# Altium schematic symbol library VSS-TVS-Diode.SchLib: 1 symbol
Pins are listed as number, name and electrical type; pins without a type are passive.

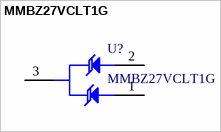
[diagram p0: symbol MMBZ27VCLT1G]

## MMBZ27VCLT1G
designator U?
Zener Diode Protection, Common Cathode, 40 Watt Peak Power, SOT-23; Manufacturer: ON Semiconductor; Supplier: Mouser; Supplier Part Number: 863-MMBZ27VCLT1G; Manufacturer Part Number: MMBZ27VCLT1G; RoHS: Yes; Category: Zener Diodes; Stock: 278682; Pricing: 1=0,12, 10=0,086, 50=0,086, 100=0,04, 1000=0,039, 10000=0,019 (USD); ComponentLink1URL: https://datasheet.ciiva.com/360/mmbz15vdlt1-d-360291.pdf?src-supplier=Avnet; ComponentLink1Description: https://datasheet.ciiva.com/360/mmbz15vdlt1-d-360291.pdf?src-supplier=Avnet; ComponentLink2URL: https://datasheet.ciiva.com/8026/mmbz15vdlt1-d-8026780.pdf?src-supplier=Element14; ComponentLink2Description: https://datasheet.ciiva.com/8026/mmbz15vdlt1-d-8026780.pdf?src-supplier=Element14; ComponentLink3URL: https://datasheet.ciiva.com/8026/mmbz15vdlt1-d-8026782.pdf?src-supplier=Element14; ComponentLink3Description: https://datasheet.ciiva.com/8026/mmbz15vdlt1-d-8026782.pdf?src-supplier=Element14; ComponentLink4URL: https://datasheet.ciiva.com/18426/70099539-18426859.pdf?src-supplier=Allied+Electronics; ComponentLink4Description: https://datasheet.ciiva.com/18426/70099539-18426859.pdf?src-supplier=Allied+Electronics; ComponentLink5URL: https://datasheet.ciiva.com/26917/getdatasheetpartid-249861-26917926.pdf?src-supplier=Verical; ComponentLink5Description: https://datasheet.ciiva.com/26917/getdatasheetpartid-249861-26917926.pdf?src-supplier=Verical; ComponentLink6URL: https://datasheet.ciiva.com/339/mmbz15vdlt1-d-339724.pdf?src-supplier=Digikey; ComponentLink6Description: https://datasheet.ciiva.com/339/mmbz15vdlt1-d-339724.pdf?src-supplier=Digikey; ComponentLink7URL: https://datasheet.ciiva.com/339/mmbz15vdlt1-d-339725.pdf?src-supplier=Digikey; ComponentLink7Description: https://datasheet.ciiva.com/339/mmbz15vdlt1-d-339725.pdf?src-supplier=Digikey; ComponentLink8URL: https://datasheet.ciiva.com/339/mmbz15vdlt1-d-339726.pdf?src-supplier=Digikey; ComponentLink8Description: https://datasheet.ciiva.com/339/mmbz15vdlt1-d-339726.pdf?src-supplier=Digikey; ComponentLink9URL: https://datasheet.ciiva.com/11193/mmbz15vdlt1-d-11193257.pdf?src-supplier=Avnet; ComponentLink9Description: https://datasheet.ciiva.com/11193/mmbz15vdlt1-d-11193257.pdf?src-supplier=Avnet
footprint DIODES SOT-23-3 (SOT23, 3-Leads, Body 2.90x2.40mm, Pitch 0.95mm, IPC Medium Density)
pins: 1, 2, 3